# EAGLE library part ELE02_BMP280 (library ele02)
BMP280 Sensor
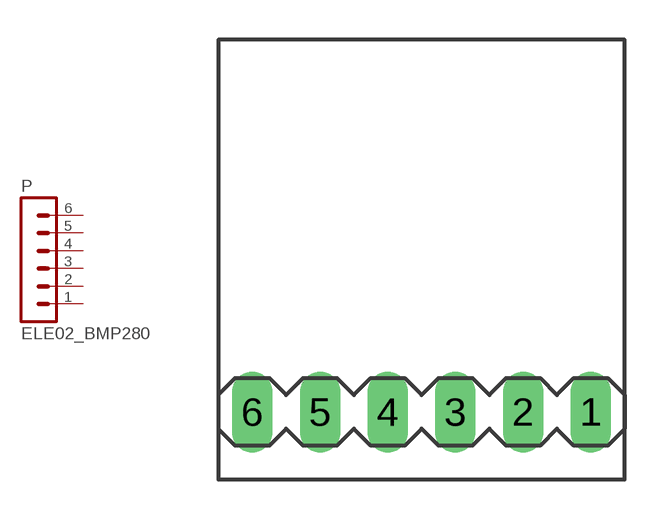
[diagram p2: symbol with the pads of ELE02_BMP280; footprint ELE02_BMP280]

Designator prefix P

## ELE02_BMP280  [ELE02_BMP280]
1  1  pas
2  2  pas
3  3  pas
4  4  pas
5  5  pas
6  6  pas

## Footprint ELE02_BMP280 (pad centres in mm)
BMP280 Sensor
drill 1.016 long: 1 13.97,1.27; 2 11.43,1.27; 3 8.89,1.27; 4 6.35,1.27; 5 3.81,1.27; 6 1.27,1.27